# Altium footprint library 640445-6.PcbLib: 1 footprints
Each footprint in its own frame and in the unit in brackets; x right, y up, seen from the top. Pads: shape width x height; smd on the part's side, far side on the other; paste and mask are expansions set on the pad; w line width, h text height; cw(c..) or ccw(c..) is an arc to the next point about the centre after c.
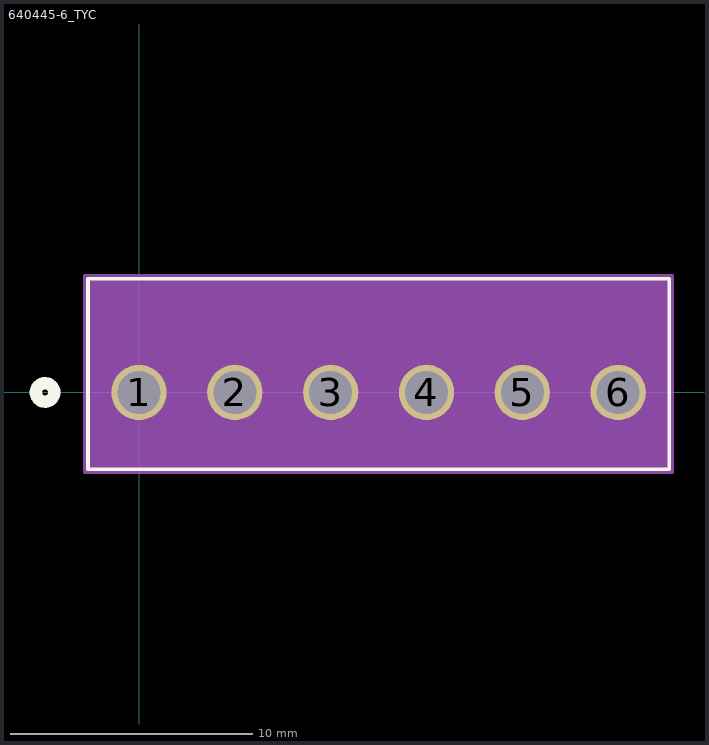
[diagram p0: the footprint, top view; thin cyan lines are the x and y axes]

## 640445-6_TYC [mil]
pads (6):
  round 90 / inner round 60 / far side round 90 hole 70 paste-45 mask+0: 1(0,0) 2(156,0) 3(312,0) 4(468,0) 5(624,0) 6(780,0)
Top Overlay:
  circle w20: c-153,0 r15
  lines w6: -83,-125 863,-125 863,185 -83,185 -83,-125
Bottom Overlay:
  circle w20: c-153,0 r15
Mechanical 13:
  circle w20: c0,-75 r15
  lines w1: -78,-120 858,-120 858,180 -78,180 -78,-120
Mechanical 15:
  region: 868,190 -88,190 -88,-130 868,-130
  lines w6: -88,-130 -88,190 868,190 868,-130 -88,-130